# Altium schematic symbol library lamp_controller.SchLib: 88 symbols (part 3 of 3)
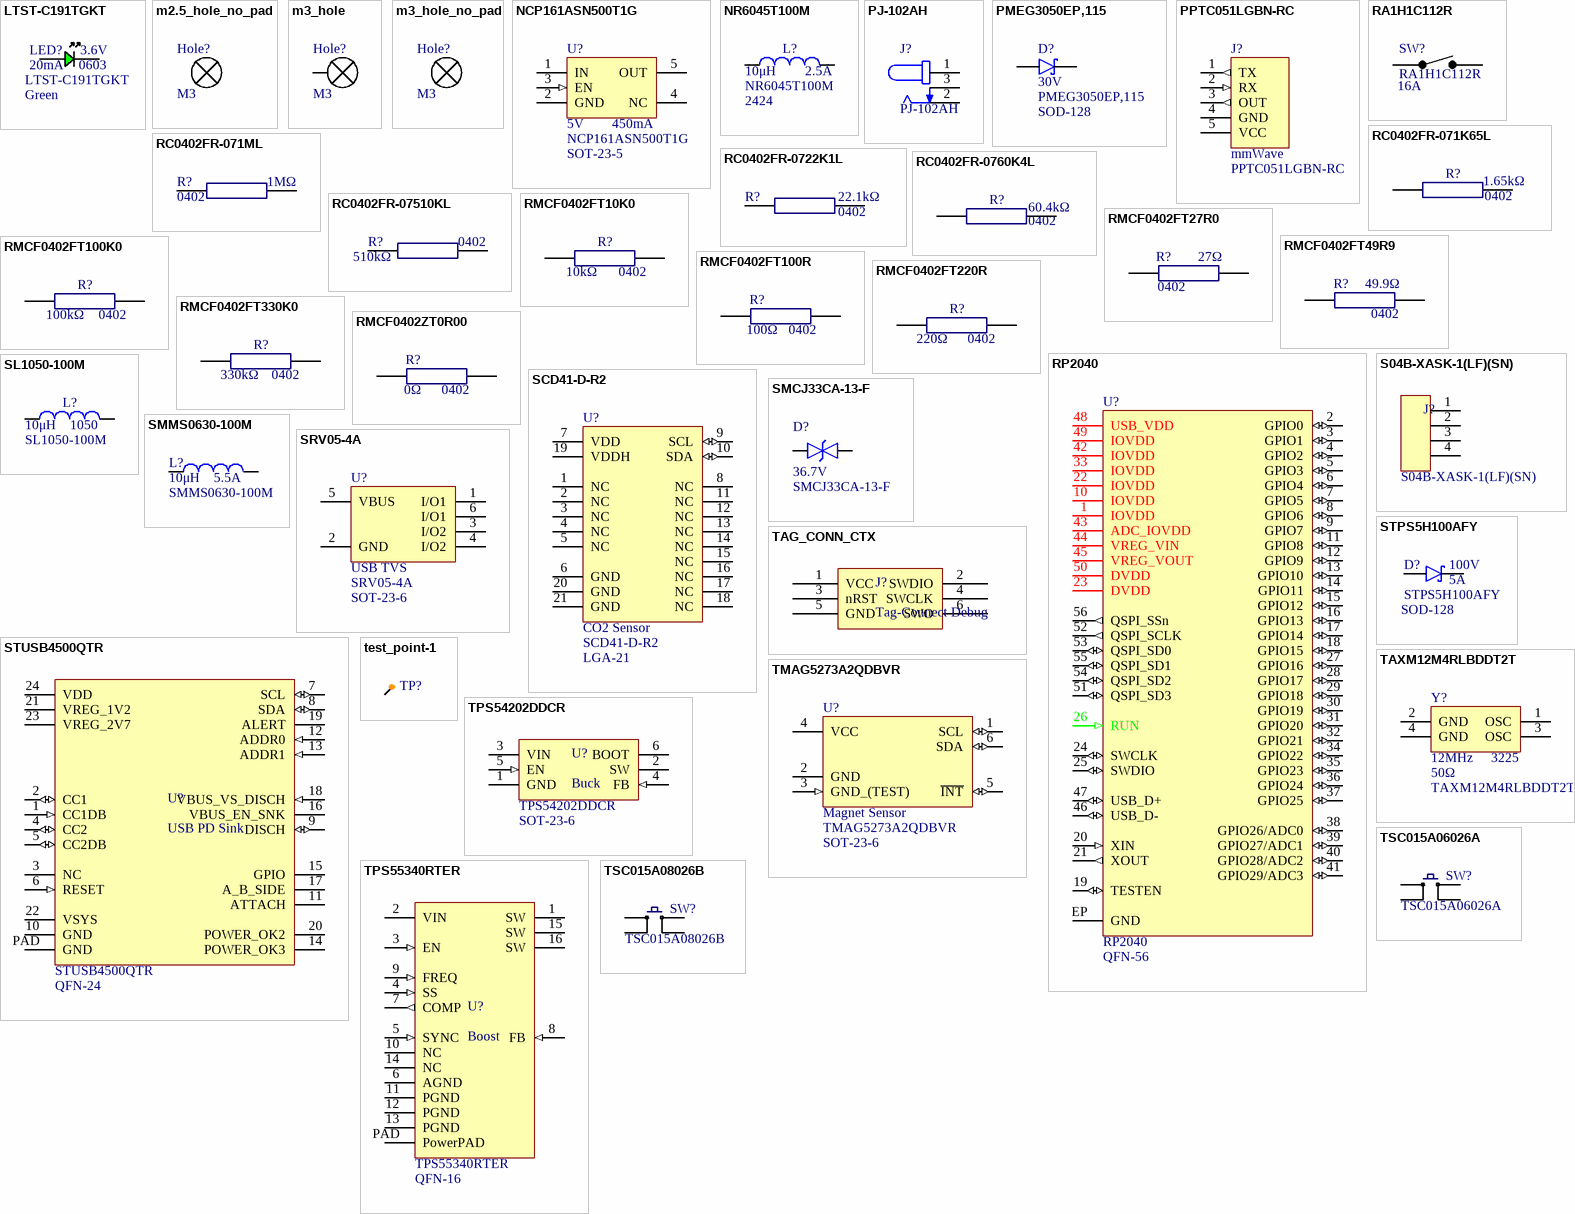
[diagram p4: symbols LTST-C191TGKT to TSC015A08026B]

## RMCF0402FT100K0
designator R?  Case Code (Imperial): 0402  Resistance: 100kΩ  (hidden comment: RMCF0402FT100K0)
100 kΩ, 0402 Chip resistor; Manufacturer: Stackpole Electronics; Manufacturer Part Number: RMCF0402FT10K0; house_part_number: R-100k-0402-1%-001; Tolerance: 1%; Power Rating: 62.5mW; Temperature Coefficient: 100ppm/°C; Max Power Dissipation: 63mW; Supplier 1: Digi-Key; RoHS: Yes; Category: Chip SMD Resistors; Stock 1: 7219214; Pricing 1: 1=0.10000, 10=0.01300, 100=0.00530, 1000=0.00239, 2500=0.00207, 5000=0.00171 (USD); Mount: Surface Mount; Case/Package: 0402; Case Code (Metric): 1005; Contact Plating: Tin,Matte; Size Code: 0402; Min Operating Temperature: -55°C; Max Operating Temperature: 155°C; Packaging: Tape and Reel; Resistor Type: Thick Film; Number of Terminations: 2; Features: Automotive AEC-Q200; Series: RMCF; Construction: Rectangular; Length: 1mm; Width: 0.02inch; Height: 0.016inch; Depth: 0.5mm; Radiation Hardening: No; Military Standard: Not; Lead Free: Lead Free; RoHS Compliant: Yes; ComponentLink1URL: https://datasheet.ciiva.com/24341/sei-rmcp-24341800.pdf?src-supplier=Onlinecomponents.com; ComponentLink1Description: https://datasheet.ciiva.com/24341/sei-rmcp-24341800.pdf?src-supplier=Onlinecomponents.com; Supplier Part Number 1: RMCF0402FT10K0CT-ND
footprint 0402_resistor (0402 chip resistor)
pins: 1, 2

## RMCF0402FT100R
designator R?  Case Code (Imperial): 0402  Resistance: 100Ω  (hidden comment: RMCF0402FT100R)
100 Ω, 0402 Chip resistor; Manufacturer: Stackpole Electronics; house_part_number: R-100-0402-1%-001; Power Rating: 62.5mW; Tolerance: 1%; Max Power Dissipation: 63mW; Temperature Coefficient: 100ppm/°C; Supplier 1: Digi-Key; Supplier Part Number 1: RMCF0402FT100RCT-ND; RoHS: Yes; Category: Chip SMD Resistors; Stock 1: 188482; Pricing 1: 1=0.10000, 10=0.01300, 100=0.00530, 1000=0.00238, 2500=0.00207, 5000=0.00171 (USD); Mount: Surface Mount; Case/Package: 0402; Case Code (Metric): 1005; Contact Plating: Tin,Matte; Min Operating Temperature: -55°C; Max Operating Temperature: 155°C; Packaging: Tape and Reel; Resistor Type: Thick Film; Number of Terminations: 2; Features: Automotive AEC-Q200; Series: RMCF; Construction: Rectangular; Length: 1mm; Width: 0.02inch; Height: 0.016inch; Depth: 0.5mm; Military Standard: Not; Lead Free: Lead Free; RoHS Compliant: Yes; ComponentLink1URL: http://components.arrow.com/part/dataview/50497758S7215546N1174?src-supplier=Arrow+Electronics; ComponentLink1Description: http://components.arrow.com/part/dataview/50497758S7215546N1174?src-supplier=Arrow+Electronics; ComponentLink2URL: https://www.seielect.com/catalog/sei-rmcf_rmcp.pdf?src-supplier=Digi-Key; ComponentLink2Description: https://www.seielect.com/catalog/sei-rmcf_rmcp.pdf?src-supplier=Digi-Key; ComponentLink3URL: https://www.seielect.com/Catalog/SEI-RMCF_RMCP.pdf?src-supplier=Avnet; ComponentLink3Description: https://www.seielect.com/Catalog/SEI-RMCF_RMCP.pdf?src-supplier=Avnet; ComponentLink4URL: https://www.verical.com/server-webapp/html/getDatasheet?partID=368652&src-supplier=Verical; ComponentLink4Description: https://www.verical.com/server-webapp/html/getDatasheet?partID=368652&src-supplier=Verical; ComponentLink5URL: https://www.seielect.com/Catalog/SEI-RMCF_RMCP.pdf?src-supplier=Avnet+Asia; ComponentLink5Description: https://www.seielect.com/Catalog/SEI-RMCF_RMCP.pdf?src-supplier=Avnet+Asia; Manufacturer Part Number: RMCF0402FT100R
footprint 0402_resistor (0402 chip resistor)
pins: 1, 2

## RMCF0402FT220R
designator R?  Resistance: 220Ω  Case Code (Imperial): 0402  (hidden comment: RMCF0402FT220R)
220Ω, 0402 Chip resistor; Manufacturer: Stackpole Electronics; Manufacturer Part Number: RMCF0402FT390R; house_part_number: R-220-0402-1%-001; Tolerance: 1%; Max Power Dissipation: 63mW; Temperature Coefficient: 100ppm/°C; Supplier 1: Digi-Key; RoHS: Yes; Category: Chip SMD Resistors; Stock 1: 15771; Pricing 1: 1=0.10000, 10=0.01300, 100=0.00530, 1000=0.00239, 2500=0.00207, 5000=0.00171 (USD); Mount: Surface Mount; Case/Package: 0402; Case Code (Metric): 1005; Contact Plating: Tin,Matte; Min Operating Temperature: -55°C; Max Operating Temperature: 155°C; Packaging: Tape and Reel; Resistor Type: Thick Film; Number of Terminations: 2; Features: Automotive AEC-Q200; Series: RMCF; Length: 0.039inch; Width: 0.02inch; Height: 0.016inch; Radiation Hardening: No; Lead Free: Lead Free; RoHS Compliant: Yes; ComponentLink1URL: https://www.seielect.com/catalog/SEI-Packaging.pdf?src-supplier=Digi-Key; ComponentLink1Description: https://www.seielect.com/catalog/SEI-Packaging.pdf?src-supplier=Digi-Key; ComponentLink2URL: https://www.seielect.com/Catalog/SEI-RMCF_RMCP.pdf?src-supplier=Digi-Key; ComponentLink2Description: https://www.seielect.com/Catalog/SEI-RMCF_RMCP.pdf?src-supplier=Digi-Key; ComponentLink3URL: https://www.seielect.com/catalog/SEI-RMCF_RMCP.pdf?src-supplier=Avnet; ComponentLink3Description: https://www.seielect.com/catalog/SEI-RMCF_RMCP.pdf?src-supplier=Avnet; Supplier Part Number 1: RMCF0402FT390RCT-ND
footprint 0402_resistor (Chip Resistor, 2-Leads, Body 1.00x0.50mm, IPC Medium Density)
pins: 1, 2

## RMCF0402FT330K0
designator R?  Resistance: 330kΩ  Case Code (Imperial): 0402  (hidden comment: RMCF0402FT330K0)
330 kΩ, 0402 Chip resistor; Manufacturer: Stackpole Electronics; Manufacturer Part Number: RMCF0402FT390R; house_part_number: R-330k-0402-1%-001; Tolerance: 1%; Max Power Dissipation: 63mW; Temperature Coefficient: 100ppm/°C; Supplier 1: Digi-Key; RoHS: Yes; Category: Chip SMD Resistors; Stock 1: 15771; Pricing 1: 1=0.10000, 10=0.01300, 100=0.00530, 1000=0.00239, 2500=0.00207, 5000=0.00171 (USD); Mount: Surface Mount; Case/Package: 0402; Case Code (Metric): 1005; Contact Plating: Tin,Matte; Min Operating Temperature: -55°C; Max Operating Temperature: 155°C; Packaging: Tape and Reel; Resistor Type: Thick Film; Number of Terminations: 2; Features: Automotive AEC-Q200; Series: RMCF; Length: 0.039inch; Width: 0.02inch; Height: 0.016inch; Radiation Hardening: No; Lead Free: Lead Free; RoHS Compliant: Yes; ComponentLink1URL: https://www.seielect.com/catalog/SEI-Packaging.pdf?src-supplier=Digi-Key; ComponentLink1Description: https://www.seielect.com/catalog/SEI-Packaging.pdf?src-supplier=Digi-Key; ComponentLink2URL: https://www.seielect.com/Catalog/SEI-RMCF_RMCP.pdf?src-supplier=Digi-Key; ComponentLink2Description: https://www.seielect.com/Catalog/SEI-RMCF_RMCP.pdf?src-supplier=Digi-Key; ComponentLink3URL: https://www.seielect.com/catalog/SEI-RMCF_RMCP.pdf?src-supplier=Avnet; ComponentLink3Description: https://www.seielect.com/catalog/SEI-RMCF_RMCP.pdf?src-supplier=Avnet; Supplier Part Number 1: RMCF0402FT390RCT-ND
footprint 0402_resistor (0402 chip resistor)
pins: 1, 1, 2, 2

## RMCF0402ZT0R00
designator R?  Resistance: 0Ω  Case/Package: 0402  (hidden comment: RMCF0402ZT0R00)
0 Ω, 0402 Jumper; Manufacturer: Stackpole Electronics; house_part_number: JP-0402-001; Power Rating: 63mW; Current Rating: 1A; Working Voltage: 50V; Supplier 1: Digi-Key; Supplier Part Number 1: RMCF0402ZT0R00CT-ND; RoHS: Yes; Category: Chip SMD Resistors; Stock 1: 6500003; Pricing 1: 1=0.10000, 10=0.01000, 25=0.00720, 50=0.00560, 100=0.00410, 250=0.00316, 500=0.00252, 1000=0.00186, 5000=0.00133 (USD); Mount: Surface Mount; Case Code (Metric): 1005; Case Code (Imperial): 0402; Contact Plating: Tin,Matte; Min Operating Temperature: -55°C; Max Operating Temperature: 155°C; Packaging: Tape and Reel; Resistor Type: Thick Film; Number of Terminations: 2; Max Power Dissipation: 63mW; Features: Automotive AEC-Q200; Series: RMCF; Technology: THICK FILM; Construction: Rectangular; Length: 0.039inch; Width: 0.02inch; Height: 0.016inch; Depth: 0.5mm; Radiation Hardening: No; Military Standard: Not; Lead Free: Lead Free; RoHS Compliant: Yes; ComponentLink1URL: https://datasheet.ciiva.com/26835/getdatasheetpartid-409751-26835612.pdf?src-supplier=Verical; ComponentLink1Description: https://datasheet.ciiva.com/26835/getdatasheetpartid-409751-26835612.pdf?src-supplier=Verical; Manufacturer Part Number: RMCF0402ZT0R00
footprint 0402_resistor (0402 chip resistor)
pins: 1, 2

## RP2040
designator U?  Manufacturer Part Number: RP2040  Package: QFN-56
Raspberry Pi microcontroller, QFN-56; Manufacturer: Raspberry Pi; Supplier: Newark; Supplier Part Number: 49AJ8739; RoHS: No; Category: Uncategorized; Stock: 720; Pricing: 1=1 (USD)
footprint QFN-56
pins: 1 IOVDD (power), 2 GPIO0 (io), 3 GPIO1 (io), 4 GPIO2 (io), 5 GPIO3 (io), 6 GPIO4 (io), 7 GPIO5 (io), 8 GPIO6 (io), 9 GPIO7 (io), 10 IOVDD (power), 11 GPIO8 (io), 12 GPIO9 (io), 13 GPIO10 (io), 14 GPIO11 (io), 15 GPIO12 (io), 16 GPIO13 (io), 17 GPIO14 (io), 18 GPIO15 (io), 19 TESTEN (io), 20 XIN (in), 21 XOUT (out), 22 IOVDD (power), 23 DVDD (power), 24 SWCLK (io), 25 SWDIO (io), 26 RUN (in), 27 GPIO16 (io), 28 GPIO17 (io), 29 GPIO18 (io), 30 GPIO19 (io), 31 GPIO20 (io), 32 GPIO21 (io), 33 IOVDD (power), 34 GPIO22 (io), 35 GPIO23 (io), 36 GPIO24 (io), 37 GPIO25 (io), 38 GPIO26/ADC0 (io), 39 GPIO27/ADC1 (io), 40 GPIO28/ADC2 (io), 41 GPIO29/ADC3 (io), 42 IOVDD (power), 43 ADC_IOVDD (power), 44 VREG_VIN (power), 45 VREG_VOUT (power), 46 USB_D- (io), 47 USB_D+ (io), 48 USB_VDD (power), 49 IOVDD (power), 50 DVDD (power), 51 QSPI_SD3 (io), 52 QSPI_SCLK (out), 53 QSPI_SD0 (io), 54 QSPI_SD2 (io), 55 QSPI_SD1 (io), 56 QSPI_SSn (out), EP GND (power)

## S04B-XASK-1(LF)(SN)
designator J?  Manufacturer Part Number: S04B-XASK-1(LF)(SN)  (hidden comment: *)
XA Series 4 Position 2.5 mm Side Entry Through-Hole Shrouded Header; Manufacturer: JST; Number of Poles: 4; Current Rating: 3A; Contact Resistance: 10mR; Voltage Rating (AC): 250V; Insulation Resistance: 1GR; Gender: Male; Pitch: 2.5mm; Wire/Cable Gauge: 20AWG; Lead Length: 3.4mm; Supplier: Arrow Electronics; Supplier Part Number: S04B-XASK-1(LF)(SN); RoHS: Yes; Category: Headers and Wire Housings; Stock: 13562; Pricing: 1=0.5096, 10=0.4564, 25=0.4517, 50=0.4469, 100=0.364, 500=0.2293 (USD); Mounting Technology: Through Hole,PCB; Pins: 4; Contact Plating: Tin; Contact Material: Copper Alloy,Tin,Bronze,Copper; Color: Beige; Material: Nylon; Contact Shape: Circular; Contact Finish - Mating: TIN; Insulation Material: Nylon; Insulation Color: Natural; Min Operating Temperature: -25°C; Max Operating Temperature: 85°C; Number of Rows: 1; Voltage Rating (DC): 250V; Voltage Rating: 250V; Termination: Solder; Number of Contacts: 4; Number of Positions: 4; Orientation: Right Angle; Series: XA; Connector Type: Header; Fastening Type: Ramp; Packaging: Bulk; Contact Type: Male Pin; Length: 12.5mm; Width: 12.6mm; Height: 7.6mm; Lead Free: Lead Free; Reach SVHC Compliant: No; Flammability Rating: UL94 V-0; ComponentLink1URL: https://datasheet.ciiva.com/29316/741407-da-01-en-stiftleiste-abgew-4-pol-rm-2-5mm-29316948.pdf?src-supplier=Conrad; ComponentLink1Description: https://datasheet.ciiva.com/29316/741407-da-01-en-stiftleiste-abgew-4-pol-rm-2-5mm-29316948.pdf?src-supplier=Conrad; ComponentLink2URL: https://datasheet.ciiva.com/8052/80585-8052159.pdf?src-supplier=Element14; ComponentLink2Description: https://datasheet.ciiva.com/8052/80585-8052159.pdf?src-supplier=Element14; ComponentLink3URL: https://datasheet.ciiva.com/16364/exa1-16364429.pdf?src-supplier=Future+Electronics; ComponentLink3Description: https://datasheet.ciiva.com/16364/exa1-16364429.pdf?src-supplier=Future+Electronics
footprint S04B-XASK-1 (JST XA 2.5mm header, right angle)
pins: 1, 2, 3, 4

## SCD41-D-R2
designator U?, comment CO2 Sensor  Package: LGA-21  Manufacturer Part Number: SCD41-D-R2
400 - 5000 ppm CO2 sensor, LGA-21; Manufacturer: Sensirion; Supplier 1: Digikey; RoHS: No; Stock 1: 1686; Pricing 1: 600=25.70007 (USD); Reach SVHC Compliant: Yes; ComponentLink1URL: https://datasheet.octopart.com/SCD41-D-R2-Sensirion-datasheet-166236393.pdf?src-supplier=Future+Electronics; ComponentLink1Description: https://datasheet.octopart.com/SCD41-D-R2-Sensirion-datasheet-166236393.pdf?src-supplier=Future+Electronics; Supplier Part Number 1: 1649-SCD41-D-R2TR-ND
footprint scd41
pins: 1 NC "Do not connect, pads must be soldered to a floating pad on the customer PCB", 2 NC "Do not connect, pads must be soldered to a floating pad on the customer PCB", 3 NC "Do not connect, pads must be soldered to a floating pad on the customer PCB", 4 NC "Do not connect, pads must be soldered to a floating pad on the customer PCB", 5 NC "Do not connect, pads must be soldered to a floating pad on the customer PCB", 6 GND (power) "Ground", 7 VDD (power) "Supply voltage", 8 NC "Do not connect, pads must be soldered to a floating pad on the customer PCB", 9 SCL (io) "I2C Serial clock", 10 SDA (io) "I2C Serial data, bidirectional", 11 NC "Do not connect, pads must be soldered to a floating pad on the customer PCB", 12 NC "Do not connect, pads must be soldered to a floating pad on the customer PCB", 13 NC "Do not connect, pads must be soldered to a floating pad on the customer PCB", 14 NC "Do not connect, pads must be soldered to a floating pad on the customer PCB", 15 NC "Do not connect, pads must be soldered to a floating pad on the customer PCB", 16 NC "Do not connect, pads must be soldered to a floating pad on the customer PCB", 17 NC "Do not connect, pads must be soldered to a floating pad on the customer PCB", 18 NC "Do not connect, pads must be soldered to a floating pad on the customer PCB", 19 VDDH (power) "Supply voltage IR source, must be connected to VDD on customer PCB", 20 GND (power) "Ground", 21 GND (power) "Ground"

## SL1050-100M
designator L?  Inductance: 10μH  Package: 1050  Manufacturer Part Number: SL1050-100M  (hidden comment: *)
10 μH, 8A, 1050 Inductor; Manufacturer: TECHFUSE; RoHS: Yes; Current: 8A
footprint 1050_inductor (Precision Wire Wound Inductor, 2-Leads, Body 11.00x10.50mm, IPC Medium Density)
pins: 1, 2

## SMCJ33CA-13-F
designator D?  Manufacturer Part Number: SMCJ33CA-13-F  Min Breakdown Voltage: 36.7V  (hidden comment: *)
TVS diode, Trans Voltage Suppressor Diode, 1500W, 33V V(RWM), Bidirectional, 1 Element, Silicon; Manufacturer: Diodes; Package Body Material: Plastic; Additional Feature: EXCELLENT CLAMPING CAPABILITY; Max Breakdown Voltage: 40.6V; Breakdown Voltage-Nom: 38.7V; Clamping Voltage-Max: 53.3V; Non-rep Peak Rev Power Dis-Max: 1.5kW; Number of Elements: 1; Max Power Dissipation: 5W; Time @ Peak Reflow Temperature-Max (s): 40s; Qualification Status: Not Qualified; Supplier 1: LCSC; RoHS: Yes; Category: TVS Diodes; Stock 1: 2995; Pricing 1: 5=0.2921, 50=0.2375, 150=0.2141, 500=0.185, 3000=0.172, 6000=0.1642 (USD); Pins: 2; Diode Element Material: SILICON; Package Shape: Rectangular; Terminal Finish: Tin; Min Operating Temperature: -55°C; Max Operating Temperature: 150°C; JESD-609 Code: e3; Polarity: Bidirectional; Diode Type: TRANS VOLTAGE SUPPRESSOR; JESD-30 Code: R-PDSO-C2; Moisture Sensitivity Level: 1; Package Style: SMALL OUTLINEMeter; Peak Reflow Temperature (Cel): 260°C; Rep Pk Reverse Voltage-Max: 33V; Surface Mount: Yes; Technology: AVALANCHE; Terminal Form: C BEND; Terminal Position: DUAL; RoHS Compliant: Yes; Reach SVHC Compliant: No; ComponentLink1URL: https://datasheet.ciiva.com:443/pdfs/VipMasterIC/IC/DIOD/DIOD-S-A0000285740/DIOD-S-A0000285740-1.pdf?src-supplier=IHS+Markit; ComponentLink1Description: https://datasheet.ciiva.com:443/pdfs/VipMasterIC/IC/DIOD/DIOD-S-A0000285740/DIOD-S-A0000285740-1.pdf?src-supplier=IHS+Markit; ComponentLink2URL: http://www.mouser.com/ds/2/115/ds19003-73575.pdf?src-supplier=Mouser; ComponentLink2Description: http://www.mouser.com/ds/2/115/ds19003-73575.pdf?src-supplier=Mouser; ComponentLink3URL: http://components.arrow.com/part/dataview/41510117S9851208N2867?src-supplier=Arrow+Electronics; ComponentLink3Description: http://components.arrow.com/part/dataview/41510117S9851208N2867?src-supplier=Arrow+Electronics; ComponentLink4URL: https://datasheet.octopart.com/SMCJ33CA-13-F-Diodes-Inc.-datasheet-6912.pdf?src-supplier=Digikey; ComponentLink4Description: https://datasheet.octopart.com/SMCJ33CA-13-F-Diodes-Inc.-datasheet-6912.pdf?src-supplier=Digikey; ComponentLink5URL: http://www.diodes.com//datasheets/ds19003.pdf?src-supplier=Avnet; ComponentLink5Description: http://www.diodes.com//datasheets/ds19003.pdf?src-supplier=Avnet; ComponentLink6URL: http://www.diodes.com///datasheets/ds19003.pdf?src-supplier=Avnet; ComponentLink6Description: http://www.diodes.com///datasheets/ds19003.pdf?src-supplier=Avnet; ComponentLink7URL: http://www.diodes.com/_files/datasheets/ds19003.pdf?src-supplier=Future+Electronics; ComponentLink7Description: http://www.diodes.com/_files/datasheets/ds19003.pdf?src-supplier=Future+Electronics; ComponentLink8URL: https://datasheet.octopart.com/SMCJ33CA-13-F-Diodes-Inc.-datasheet-130126529.pdf?src-supplier=TME; ComponentLink8Description: https://datasheet.octopart.com/SMCJ33CA-13-F-Diodes-Inc.-datasheet-130126529.pdf?src-supplier=TME; Supplier Part Number 1: C135163; Package: SMC
footprint SMCJ33CA-13-F
pins: 1, 2

## SMMS0630-100M
designator L?  Saturation Current: 5.5A  Inductance: 10μH  Manufacturer Part Number: SMMS0630-100M  (hidden comment: *)
10 μH, 5.5 A, 6.6mm x 7.3mm inductor; Manufacturer: SXN; Supplier 1: LCSC; RoHS: No; Stock 1: 72935; Pricing 1: 5=0.0834, 50=0.0677, 150=0.0596, 1000=0.0466, 2000=0.0442, 5000=0.0427 (USD); Supplier Part Number 1: C128692
footprint SMMS0630 (Precision Wire Wound Inductor, 2-Leads, Body 7.10x6.60mm, IPC Medium Density)
pins: 1, 2

## SRV05-4A
designator U?, comment USB TVS  Case/Package: SOT-23-6  Manufacturer Part Number: SRV05-4A
TVS DIODE ARRAY SOT23-6; Manufacturer: SMC Diodes; Direction: Unidirectional,Bidirectional; Capacitance: 3.5pF; Operating Supply Voltage: 1.1V; Number of Channels: 2; Breakdown Voltage: 6V; Clamping Voltage: 17V; Reverse Standoff Voltage: 5.25V; Power Line Protection: Yes; Test Current: 1mA; Max Reverse Leakage Current: 150nA; Peak Pulse Current: 5A; Element Configuration: Dual; Data Rate: 480Mbps; Number of Elements: 1; Working Voltage: 5V; RoHS: Yes; Category: TVS Diodes; Stock: 12000; Pricing: 3000=0,05640 (USD); Mount: Surface Mount; Number of Pins: 6; Contact Plating: Tin,Matte; Min Operating Temperature: -40°C; Max Operating Temperature: 125°C; Packaging: Tape and Reel; Package Quantity: 3000; Termination: SMD/SMT; Number of Bidirectional Channels: 2; Min Breakdown Voltage: 6V; ESD Protection: Yes; Leakage Current: 150nA; Series: USB; Reverse Breakdown Voltage: 6V; Polarity: Unidirectional,Bidirectional; Max Breakdown Voltage: 6V; Clamping Voltage-Max: 17V; Length: 3.05mm; Width: 1.75mm; Height: 1.3mm; Depth: 1.75mm; Radiation Hardening: No; REACH SVHC: No SVHC; Lead Free: Lead Free; RoHS Compliant: Yes; ComponentLink1URL: https://datasheet.ciiva.com/1268/1690354-1268384.pdf?src-supplier=Element14; ComponentLink1Description: https://datasheet.ciiva.com/1268/1690354-1268384.pdf?src-supplier=Element14; ComponentLink2URL: https://datasheet.ciiva.com/4508/cd00050750-113117-4508433.pdf?src-supplier=Mouser; ComponentLink2Description: https://datasheet.ciiva.com/4508/cd00050750-113117-4508433.pdf?src-supplier=Mouser; ComponentLink3URL: https://datasheet.ciiva.com/15143/getdatasheetpartid-148465-15143789.pdf?src-supplier=Verical; ComponentLink3Description: https://datasheet.ciiva.com/15143/getdatasheetpartid-148465-15143789.pdf?src-supplier=Verical; ComponentLink4URL: https://datasheet.ciiva.com/16200/cd00050750-16200026.pdf?src-supplier=Future+Electronics; ComponentLink4Description: https://datasheet.ciiva.com/16200/cd00050750-16200026.pdf?src-supplier=Future+Electronics; ComponentLink5URL: https://datasheet.ciiva.com/41444/001184109-da-01-en-ic-esd-protecti-usblc6-2sc6-sot-23-6-stm-41444156.pdf?src-supplier=Conrad; ComponentLink5Description: https://datasheet.ciiva.com/41444/001184109-da-01-en-ic-esd-protecti-usblc6-2sc6-sot-23-6-stm-41444156.pdf?src-supplier=Conrad; Supplier 1: LCSC; Supplier Part Number 1: C260410; house_part_number: SRV05-4A
footprint SOT95P280X110-6N (SOT23, 6-Leads, Body 2,90x2,80mm, Pitch 0,95mm, IPC Medium Density)
pins: 1 I/O1, 2 GND, 3 I/O2, 4 I/O2, 5 VBUS, 6 I/O1

## STPS5H100AFY
designator D?  Package: SOD-128  Current: 5A  Rep Pk Reverse Voltage-Max: 100V  Manufacturer Part Number: STPS5H100AFY  (hidden comment: *)
Schottky diode, 100V, 5A, SOD-128; Manufacturer: STMicroelectronics; Diode Element Material: SILICON; Package Body Material: Plastic; Application(s): HIGH VOLTAGE POWER; Diode Type: RECTIFIER; Forward Voltage: 760mV; Non-rep Pk Forward Current-Max: 130A; Number of Elements: 1; Max Reverse Current: 3.5uA; Reference Standard: AEC-Q101; Supplier 1: Digikey; RoHS: Yes; Category: Rectifier Diodes; Stock 1: 55724; Pricing 1: 1=0.78, 10=0.526, 100=0.4102, 500=0.31624, 1000=0.28596 (USD); Pins: 2; Package Shape: Rectangular; Min Operating Temperature: -40°C; Max Operating Temperature: 175°C; JESD-30 Code: R-PDSO-F2; Number of Phases: 1; Package Style: SMALL OUTLINEMeter; Surface Mount: Yes; Technology: SCHOTTKY; Terminal Form: Flat; Terminal Position: DUAL; RoHS Compliant: Yes; Reach SVHC Compliant: No; ComponentLink1URL: https://datasheet.ciiva.com:443/pdfs/VipMasterIC/IC/SGST/SGST-S-A0002952656/SGST-S-A0002952656-1.pdf?src-supplier=IHS+Markit; ComponentLink1Description: https://datasheet.ciiva.com:443/pdfs/VipMasterIC/IC/SGST/SGST-S-A0002952656/SGST-S-A0002952656-1.pdf?src-supplier=IHS+Markit; ComponentLink2URL: http://www.farnell.com/datasheets/2816111.pdf?src-supplier=Farnell; ComponentLink2Description: http://www.farnell.com/datasheets/2816111.pdf?src-supplier=Farnell; ComponentLink3URL: http://www.st.com/content/ccc/resource/technical/document/datasheet/group3/a7/aa/f5/d0/a8/25/41/d5/DM00303942/files/DM00303942.pdf/jcr:content/translations/en.DM00303942.pdf?src-supplier=Digikey; ComponentLink3Description: http://www.st.com/content/ccc/resource/technical/document/datasheet/group3/a7/aa/f5/d0/a8/25/41/d5/DM00303942/files/DM00303942.pdf/jcr:content/translations/en.DM00303942.pdf?src-supplier=Digikey; ComponentLink4URL: http://www.farnell.com/datasheets/2816111.pdf?src-supplier=Newark; ComponentLink4Description: http://www.farnell.com/datasheets/2816111.pdf?src-supplier=Newark; ComponentLink5URL: https://datasheet.octopart.com/STPS5H100AFY-STMicroelectronics-datasheet-97040641.pdf?src-supplier=Future+Electronics; ComponentLink5Description: https://datasheet.octopart.com/STPS5H100AFY-STMicroelectronics-datasheet-97040641.pdf?src-supplier=Future+Electronics; Supplier Part Number 1: 497-17312-1-ND
footprint SOD128
pins: 1, 2

## STUSB4500QTR
designator U?, comment USB PD Sink  Package: QFN-24  Manufacturer Part Number: STUSB4500QTR
Manufacturer: STMicroelectronics; Consumer IC Type: CONSUMER CIRCUIT; Supplier 1: LCSC; RoHS: Yes; Category: USB Interface ICs; Stock 1: 9434; Pricing 1: 1=1.8642, 10=1.5172, 30=1.3685, 100=1.183, 1000=1.0509, 2000=1.0343 (USD); Reach SVHC Compliant: Yes; RoHS Compliant: Yes; ComponentLink1URL: https://datasheet.ciiva.com:443/pdfs/VipMasterIC/IC/SGST/SGST-S-A0009451278/SGST-S-A0009451278-1.pdf?src-supplier=IHS+Markit; ComponentLink1Description: https://datasheet.ciiva.com:443/pdfs/VipMasterIC/IC/SGST/SGST-S-A0009451278/SGST-S-A0009451278-1.pdf?src-supplier=IHS+Markit; ComponentLink2URL: http://www.farnell.com/datasheets/2710898.pdf?src-supplier=Farnell; ComponentLink2Description: http://www.farnell.com/datasheets/2710898.pdf?src-supplier=Farnell; ComponentLink3URL: http://www.farnell.com/datasheets/2710898.pdf?src-supplier=Element14; ComponentLink3Description: http://www.farnell.com/datasheets/2710898.pdf?src-supplier=Element14; ComponentLink4URL: http://www.farnell.com/datasheets/2710898.pdf?src-supplier=Newark; ComponentLink4Description: http://www.farnell.com/datasheets/2710898.pdf?src-supplier=Newark; ComponentLink5URL: http://www.st.com/content/ccc/resource/technical/document/datasheet/group3/1c/4a/55/d7/17/01/44/86/DM00489312/files/DM00489312.pdf/jcr:content/translations/en.DM00489312.pdf?src-supplier=Digikey; ComponentLink5Description: http://www.st.com/content/ccc/resource/technical/document/datasheet/group3/1c/4a/55/d7/17/01/44/86/DM00489312/files/DM00489312.pdf/jcr:content/translations/en.DM00489312.pdf?src-supplier=Digikey; Supplier Part Number 1: C2678061
footprint QFN-24 (QFN, 24-Leads, Body 4.00x4.00mm, Pitch 0.50mm, Thermal Pad 2.70x2.70mm, IPC Low Density)
pins: 1 CC1DB (in) "Dead battery enable on CC1 pin", 2 CC1 (io) "Type-C configuration channel 1", 3 NC "Not Connected", 4 CC2 (io) "Type-C configuration channel 2", 5 CC2DB (io) "Dead battery enable on CC2 pin", 6 RESET (in) "Reset input, active high", 7 SCL (io) "I2C clock input", 8 SDA (io) "I2C data input/output, active low open drain", 9 DISCH (io) "Internal discharge path or external discharge path enable, active low open drain", 10 GND (power) "Ground", 11 ATTACH (oc) "Attachment detection, active low open drain", 12 ADDR0 (in) "I²C device address setting", 13 ADDR1 (in) "I²C device address setting", 14 POWER_OK3 (oc) "Power contract flag, active low open drain", 15 GPIO (oc) "General purpose output, active low open drain", 16 VBUS_EN_SNK (oc) "VBUS sink power path enable, active low open drain", 17 A_B_SIDE (oc) "Cable orientation, active low open drain", 18 VBUS_VS_DISCH (in) "VBUS voltage monitoring and discharge path", 19 ALERT (oc) "I2C interrupt, active low open drain", 20 POWER_OK2 (oc) "Power contract flag, active low open drain", 21 VREG_1V2 (power) "1.2 V internal regulator output", 22 VSYS (power) "Power supply from system", 23 VREG_2V7 (power) "2.7 V internal regulator output", 24 VDD (power) "Power supply from USB power line", PAD GND (power) "Exposed pad is connected to ground"

## TAG_CONN_CTX
designator J?, comment Tag-Connect Debug
Mates with TC-2030-CTX; house_part_number: type-value-case-grade
footprint TAG-Connect (Debug header)
pins: 1 VCC, 2 SWDIO, 3 nRST, 4 SWCLK, 5 GND, 6 SWO

## TAXM12M4RLBDDT2T
designator Y?  value 12MHz  ESR: 50Ω  Case/Package: 3225  (hidden comment: TAXM12M4RLBDDT2T)
12 MHz, 10 ppm, 20 pF, 3225 Crystal; Supplier 1: LCSC; Supplier Part Number 1: C133334; house_part_number: TAXM12M4RLBDDT2T; Manufacturer Part Number: TAXM12M4RLBDDT2T
footprint 3225_crystal
pins: 1 OSC, 2 GND (power), 3 OSC, 4 GND (power)

## test_point-1
designator TP?  (value not drawn)  (no BOM)
Test point; pickable: no
footprint test_point-1 (Test point)
pins: 1

## TMAG5273A2QDBVR
designator U?, comment Magnet Sensor  Package: SOT-23-6  Manufacturer Part Number: TMAG5273A2QDBVR
3-Axis Hall sensor, I2C, SOT-23-6; Manufacturer: Texas Instruments; Supplier 1: LCSC; RoHS: No; Category: Integrated Circuits (ICs); Stock 1: 2055; Pricing 1: 1=0.7697, 10=0.6247, 30=0.5507, 100=0.4782, 500=0.4242, 1000=0.4011 (USD); Supplier Part Number 1: C3715882
footprint SOT-23-6
pins: 1 SCL (io) "Serial clock.", 2 GND (power) "Ground", 3 GND_(TEST) (in) "TI Test Pin. Connect to ground in application.", 4 VCC (power) "Power supply (1.7V - 3.6V)", 5 ~{INT} (io) "Interrupt input/ output. If not used and connected to ground, set MASK_INTB = 1b.", 6 SDA (io) "Serial data."

## TPS54202DDCR
designator U?, comment Buck  Case/Package: SOT-23-6  Manufacturer Part Number: TPS54202DDCR
Switching Regulator, Current-mode, 2A, 500kHz Switching Freq-Max, PDSO6; Manufacturer: Texas Instruments; Package Body Material: Plastic; Control Technique: PULSE WIDTH MODULATION; Max Supply Voltage: 28V; Min Input Voltage: 4.5V; Nominal Supply Voltage: 12V; Channels: 1; Max Output current: 3.9A; Frequency: 590kHz; Supplier 1: Digi-Key; RoHS: Yes; Category: Voltage Regulators - Switching; Stock 1: 4766; Pricing 1: 1=1.29, 10=1.154, 25=1.0956, 100=0.9001, 250=0.8414, 500=0.74356, 1000=0.58702 (USD); Pins: 6; Package Shape: Rectangular; Terminal Finish: Tin; Min Operating Temperature: -40°C; Max Operating Temperature: 125°C; JESD-609 Code: e3; Throw Configuration: SWITCHING REGULATOR; Control Mode: CURRENT-MODE; JESD-30 Code: R-PDSO-G6; Moisture Sensitivity Level: 1; Package Style: SMALL OUTLINE, THIN PROFILE, SHRINK PITCHMeter; Surface Mount: Yes; Switcher Configuration: BUCK; Terminal Form: Gull Wing; Terminal Position: DUAL; Length: 2.9mm; Width: 1.6mm; Height - Seated (Max): 1.1mm; Terminal Pitch: 0.95mm; Temperature Grade: AUTOMOTIVE; Reach SVHC Compliant: Yes; RoHS Compliant: Yes; ComponentLink1URL: https://www.ti.com:443/lit/ds/symlink/tps54202.pdf?src-supplier=IHS+Markit; ComponentLink1Description: https://www.ti.com:443/lit/ds/symlink/tps54202.pdf?src-supplier=IHS+Markit; ComponentLink2URL: http://www.ti.com/general/docs/suppproductinfo.tsp?distId=10&gotoUrl=http%3A%2F%2Fwww.ti.com%2Flit%2Fgpn%2Ftps54202&src-supplier=Digi-Key; ComponentLink2Description: http://www.ti.com/general/docs/suppproductinfo.tsp?distId=10&gotoUrl=http%3A%2F%2Fwww.ti.com%2Flit%2Fgpn%2Ftps54202&src-supplier=Digi-Key; ComponentLink3URL: http://www.ti.com/lit/ds/symlink/tps54202.pdf?src-supplier=Digi-Key; ComponentLink3Description: http://www.ti.com/lit/ds/symlink/tps54202.pdf?src-supplier=Digi-Key; ComponentLink4URL: http://www.ti.com/general/docs/suppproductinfo.tsp?distId=10&amp;gotoUrl=http%3A%2F%2Fwww.ti.com%2Flit%2Fgpn%2Ftps54202&src-supplier=Digi-Key; ComponentLink4Description: http://www.ti.com/general/docs/suppproductinfo.tsp?distId=10&amp;gotoUrl=http%3A%2F%2Fwww.ti.com%2Flit%2Fgpn%2Ftps54202&src-supplier=Digi-Key; Supplier Part Number 1: 296-TPS54202DDCRDKR-ND
footprint SOT-23-6
pins: 1 GND (power) "Ground pin. Source terminal of low-side power NFET as well as the ground terminal for controller circuit. Connect sensitive VFB to this GND at a single point.", 2 SW (power) "Switch node connection between high-side NFET and low-side NFET.", 3 VIN (power) "Input voltage supply pin. The drain terminal of high-side power NFET", 4 FB (in) "Converter feedback input. Connect to output voltage with feedback resistor divider.", 5 EN (in) "This pin is the enable pin. Float the EN pin to enable.", 6 BOOT (power) "Supply input for the high-side NFET gate drive circuit. Connect a 0.1-μF capacitor between BOOT and SW pins."

## TPS55340RTER
designator U?, comment Boost  Package: QFN-16  Manufacturer Part Number: TPS55340RTER
Boost, 32V, 7.75A, QFN-16; Manufacturer: Texas Instruments; Package Body Material: Plastic; Throw Configuration: SWITCHING REGULATOR; Control Mode: CURRENT-MODE; Control Technique: PULSE WIDTH MODULATION; Min Input Voltage: 2.9V; Nominal Supply Voltage: 5V; Channels: 1; Frequency: 1.48MHz; Qualification Status: Not Qualified; Supplier 1: LCSC; RoHS: Yes; Category: Voltage Regulators - Switching; Stock 1: 2560; Pricing 1: 1=0.8828, 10=0.7582, 30=0.6705, 100=0.5967, 500=0.5168, 1000=0.5029 (USD); Case/Package: HVQCCN; Pins: 16; Package Shape: Square; Terminal Finish: Nickel; Min Operating Temperature: -40°C; Max Operating Temperature: 150°C; JESD-609 Code: e4; Max Supply Voltage: 32V; JESD-30 Code: S-PQCC-N16; Moisture Sensitivity Level: 2; Max Output current: 7.75A; Package Style: CHIP CARRIER, HEAT SINK/SLUG, VERY THIN PROFILEMeter; Peak Reflow Temperature (Cel): 260°C; Surface Mount: Yes; Switcher Configuration: BOOST; Terminal Form: No Lead; Terminal Position: QUAD; Length: 3mm; Width: 3mm; Height - Seated (Max): 0.8mm; Terminal Pitch: 0.5mm; Temperature Grade: AUTOMOTIVE; Reach SVHC Compliant: Yes; RoHS Compliant: Yes; ComponentLink1URL: https://www.ti.com:443/lit/ds/symlink/tps55340.pdf?src-supplier=IHS+Markit; ComponentLink1Description: https://www.ti.com:443/lit/ds/symlink/tps55340.pdf?src-supplier=IHS+Markit; ComponentLink2URL: https://datasheet.ciiva.com/41798/tps55340-41798808.pdf?src-supplier=Digikey; ComponentLink2Description: https://datasheet.ciiva.com/41798/tps55340-41798808.pdf?src-supplier=Digikey; ComponentLink3URL: https://datasheet.ciiva.com/14377/tps55340-14377094.pdf?src-supplier=Avnet; ComponentLink3Description: https://datasheet.ciiva.com/14377/tps55340-14377094.pdf?src-supplier=Avnet; Supplier Part Number 1: C169167
footprint QDF-16 (QFN, 16-Leads, Body 3.00x3.00mm, Pitch 0.50mm, Thermal Pad 1.70x1.70mm, IPC Low Density)
pins: 1 SW (power) "SW is the drain of the internal power MOSFET. Connect SW to the switched side of the boost or SEPIC inductor or the flyback transformer.", 2 VIN (power) "The input supply pin to the IC. Connect VIN to a supply voltage between 2.9 V and 32 V. It is acceptable for the voltage on the pin to be different from the boost power stage input.", 3 EN (in) "Enable pin. When the voltage of this pin falls below the enable threshold for more than 1 ms, the IC turns off.", 4 SS (in) "Soft-start programming pin. A capacitor between the SS pin and AGND pin programs soft-start timing.", 5 SYNC (in) "Switching frequency synchronization pin. An external clock signal can be used to set the switching frequency between 200 kHz and 1.0 MHz. If not used, this pin should be tied to AGND.", 6 AGND (power) "Signal ground of the IC", 7 COMP (out) "Output of the transconductance error amplifier. An external RC network connected to this pin compensates the regulator feedback loop.", 8 FB (in) "Error amplifier input and feedback pin for positive voltage regulation. Connect to the center tap of a resistor divider to program the output voltage.", 9 FREQ (in) "Switching frequency program pin. An external resistor connected between the FREQ pin and AGND sets the switching frequency.", 10 NC (power) "Reserved pin that must be connected to ground", 11 PGND (power) "Power ground of the IC. It is connected to the source of the internal power MOSFET switch.", 12 PGND (power) "Power ground of the IC. It is connected to the source of the internal power MOSFET switch.", 13 PGND (power) "Power ground of the IC. It is connected to the source of the internal power MOSFET switch.", 14 NC (power) "Reserved pin that must be connected to ground", 15 SW (power) "SW is the drain of the internal power MOSFET. Connect SW to the switched side of the boost or SEPIC inductor or the flyback transformer.", 16 SW (power) "SW is the drain of the internal power MOSFET. Connect SW to the switched side of the boost or SEPIC inductor or the flyback transformer.", PAD PowerPAD (power) "The PowerPAD should be soldered to the AGND. If possible, use thermal vias to connect to internal ground plane for improved power dissipation."

## TSC015A06026A
designator SW?
Tactile switch, SPST, 6mm tall; Mechanical Life: 100000Cycles; Illumination Type: Non-Illuminated; Switch Function: Off-Mom; Actuator Type: Standard; Operating Force: 260gf; Switch Travel: 0.25mm; Ratings: IP40; RoHS: No; Category: Tactile Switches; Mount: Surface Mount; Min Operating Temperature: -20°C; Max Operating Temperature: 70°C; Throw Configuration: SPST; Packaging: Tape and Reel; Termination: Gull Wing; ComponentLink1URL: https://www.ckswitches.com/media/2567/pts647.pdf?src-supplier=Digi-Key; ComponentLink1Description: https://www.ckswitches.com/media/2567/pts647.pdf?src-supplier=Digi-Key; Height: 6mm; Manufacturer Part Number: TSC015A06026A
footprint TSC015A06026A
pins: 1, 2, 3, 4

## TSC015A08026B
designator SW?
Tactile switch, SPST, 8mm tall; house_part_number: SW-TAC-4.5-8-260gf; Mechanical Life: 100000Cycles; Illumination Type: Non-Illuminated; Switch Function: Off-Mom; Actuator Type: Standard; Operating Force: 260gf; Switch Travel: 0.25mm; Ratings: IP40; RoHS: No; Category: Tactile Switches; Stock 1: 68566; Pricing 1: 1=0.13000, 10=0.12700, 25=0.12080, 100=0.10970, 250=0.10308, 500=0.09432, 1000=0.07897 (USD); Mount: Surface Mount; Min Operating Temperature: -20°C; Max Operating Temperature: 70°C; Throw Configuration: SPST; Packaging: Tape and Reel; Termination: Gull Wing; ComponentLink1URL: https://www.ckswitches.com/media/2567/pts647.pdf?src-supplier=Digi-Key; ComponentLink1Description: https://www.ckswitches.com/media/2567/pts647.pdf?src-supplier=Digi-Key; Height: 8mm; Manufacturer Part Number: TSC015A08026B
footprint TSC015A08026B
pins: 1, 2, 3, 4

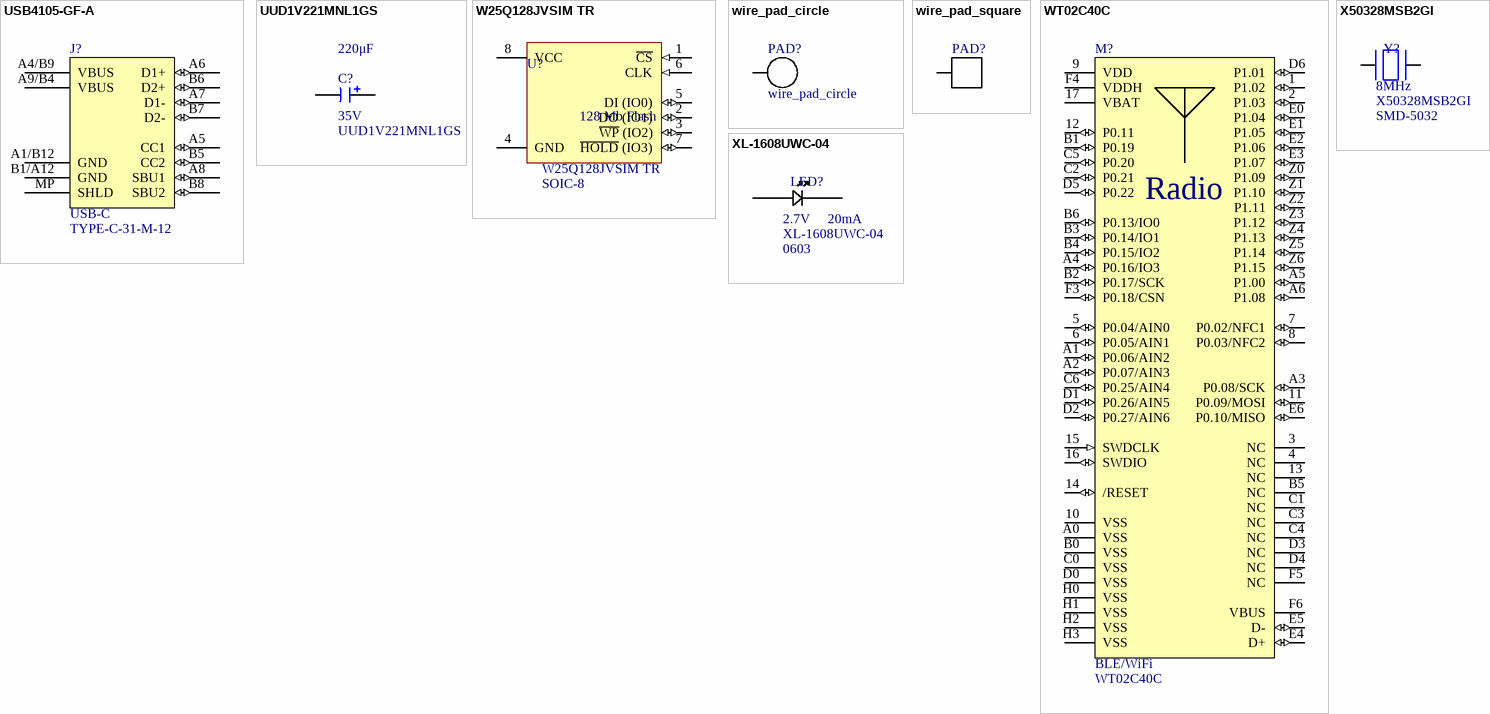
[diagram p2: symbols USB4105-GF-A to XL-1608UWC-04]

## USB4105-GF-A
designator J?, comment USB-C  Manufacturer Part Number: TYPE-C-31-M-12
USB-C 2.0 Female Connector; Manufacturer: Global Connector Technology; Alternate Manufacturer: Korean HROparts Elec; Alternate Part Number: USB4105-GF-A; Connector Type: USB; Gender: Receptacle; Mating Cycles: 10000; Shielding: Shielded; Number of Ports: 1; Supplier: Farnell; Supplier Part Number: 3588205; RoHS: No; Category: USB Connectors; Stock: 1499; Pricing: 1=1, 20=3.07, 60=3.02, 160=2.64, 400=2.63 (EUR); Mounting Technology: Surface Mount,Through Hole,Horizontal; Contact Plating: Gold; Insulation Color: Black; Min Operating Temperature: -40°C; Max Operating Temperature: 85°C; Series: USB4105; Termination: Solder; Flammability Rating: UL94 V-0; ComponentLink1URL: https://gct.co/files/drawings/usb4105.pdf?src-supplier=Digi-Key; ComponentLink1Description: https://gct.co/files/drawings/usb4105.pdf?src-supplier=Digi-Key
footprint USB_C_2.0_M12 (HRO M12/GCT 4105 USB-C 2.0 CONNECTOR)
pins: A1/B12 GND (power) "Ground", A4/B9 VBUS (power) "Bus Power", A5 CC1 (io) "Configuration channel", A6 D1+ (io) "USB 2.0 differential pair, position 1, positive", A7 D1- (io) "USB 2.0 differential pair, position 1, negative", A8 SBU1 (io) "Sideband use", A9/B4 VBUS (power) "Bus Power", B1/A12 GND (power) "Ground", B5 CC2 (io) "Configuration channel", B6 D2+ (io) "USB 2.0 differential pair, position 2, positive", B7 D2- (io) "USB 2.0 differential pair, position 2, negative", B8 SBU2 (io) "Sideband use", MP SHLD

## UUD1V221MNL1GS
designator C?  Manufacturer Part Number: UUD1V221MNL1GS  Rated DC Voltage (URdc): 35V  Capacitance: 220μF  (hidden comment: *)
220 μF, 35 V, 8mm Electrolytic capacitor; Manufacturer: Nichicon; Dielectric Material: Aluminium; Polarity: Polarized; Leakage Current: 77uA; Tolerance  (fill in as +-): 20%; Ripple Current: 225mA; Tan Delta: 0.14; Supplier 1: LCSC; RoHS: Yes; Category: Aluminum Electrolytic Capacitors; Stock 1: 28395; Pricing 1: 5=0.2357, 50=0.1846, 150=0.1627, 500=0.1284, 2500=0.1162, 5000=0.1089 (USD); Mounting Technology: Surface Mount; Pins: 2; Terminal Finish: Tin; Package Shape: Cylindrical; Case/Package: 3333; Min Operating Temperature: -55°C; Max Operating Temperature: 105°C; JESD-609 Code: e6; Capacitor Type: Aluminium; Package Style: SMTMeter; Packaging: Tape and Reel; Tolerance (fill in as +-): 20%; Termination: Flat; Length: 8.9mm; Width: 8.3mm; Height: 10mm; Reach SVHC Compliant: No; RoHS Compliant: Yes; ComponentLink1URL: https://datasheet.ciiva.com:443/pdfs/VipMasterIC/IC/NICH/NICH-S-A0009240538/NICH-S-A0009240538-1.pdf?src-supplier=IHS+Markit; ComponentLink1Description: https://datasheet.ciiva.com:443/pdfs/VipMasterIC/IC/NICH/NICH-S-A0009240538/NICH-S-A0009240538-1.pdf?src-supplier=IHS+Markit; ComponentLink2URL: https://datasheet.ciiva.com/11778/0900766b80fa39e7-11778272.pdf?src-supplier=Rs; ComponentLink2Description: https://datasheet.ciiva.com/11778/0900766b80fa39e7-11778272.pdf?src-supplier=Rs; ComponentLink3URL: https://datasheet.ciiva.com/97/e-ud-97948.pdf?src-supplier=Digikey; ComponentLink3Description: https://datasheet.ciiva.com/97/e-ud-97948.pdf?src-supplier=Digikey; ComponentLink4URL: https://datasheet.ciiva.com/97/e-ud-97949.pdf?src-supplier=Digikey; ComponentLink4Description: https://datasheet.ciiva.com/97/e-ud-97949.pdf?src-supplier=Digikey; ComponentLink5URL: https://datasheet.ciiva.com/97/e-ud-97950.pdf?src-supplier=Digikey; ComponentLink5Description: https://datasheet.ciiva.com/97/e-ud-97950.pdf?src-supplier=Digikey; ComponentLink6URL: https://datasheet.ciiva.com/15199/getdatasheetpartid-317116-15199222.pdf?src-supplier=Verical; ComponentLink6Description: https://datasheet.ciiva.com/15199/getdatasheetpartid-317116-15199222.pdf?src-supplier=Verical; Supplier Part Number 1: C251000
footprint UUD1V221MNL1GS (Aluminum Electrolytic Capacitor, Body 8.30x8.30x10.80mm, IPC Medium Density)
pins: 1, 2

## W25Q128JVSIM TR
designator U?, comment 128 Mb Flash  Manufacturer Part Number: W25Q128JVSIM TR  Case/Package: SOIC-8
128Mb SPI flash memory; Manufacturer: Winbond; house_part_number: W25Q128JVSIM; Memory Type: Non-Volatile,FLASH; Frequency: 133MHz; Supplier 1: Digi-Key; Stock 1: 0; Pricing 1: 1=1.69, 10=1.545, 25=1.5028, 50=1.495, 100=1.3364, 250=1.3325, 500=1.3124, 1000=1.2567 (USD); Mount: Surface Mount; Number of Pins: 8; Min Operating Temperature: -40°C; Max Operating Temperature: 85°C; Packaging: Cut Tape; Memory Size: 128Mb; ComponentLink1URL: http://www.winbond.com/resource-files/w25q128jv_dtr%20revc%2003272018%20plus.pdf?src-supplier=Digi-Key; ComponentLink1Description: http://www.winbond.com/resource-files/w25q128jv_dtr%20revc%2003272018%20plus.pdf?src-supplier=Digi-Key; Supplier Part Number 1: W25Q128JVSIMCT-ND
footprint SOIC-8_wide
pins: 1 ~{CS} (in), 2 DO (IO1) (io), 3 ~{WP} (IO2) (io), 4 GND (power), 5 DI (IO0) (io), 6 CLK (in), 7 ~{HOLD} (IO3) (io), 8 VCC (power)

## wire_pad_circle
designator PAD?  (no BOM)
1.5mm circular wire pad; pickable: no
footprint WIRE_PAD_CIRCLE
pins: 1

## wire_pad_square
designator PAD?  (value not drawn)  (no BOM)
1.5mm square wire pad; pickable: no
footprint WIRE_PAD_SQUARE
pins: 1

## WT02C40C
designator M?, comment BLE/WiFi  Manufacturer Part Number: WT02C40C
nRF5340 BLE/WIFI module
footprint WT02C40C (nRF5340+nRF7002 BLE+WiFI moduke)
pins: 1 P1.02 (io) "GPIO, configured as I2C SDA on EV board", 2 P1.03 (io) "GPIO, configured as I2C SCL on EV board", 3 NC "Not connected", 4 NC "Not connected", 5 P0.04/AIN0 (io) "GPIO, Analog input", 6 P0.05/AIN1 (io) "GPIO, Analog input", 7 P0.02/NFC1 (io) "GPIO, NFC antenna connection", 8 P0.03/NFC2 (io) "GPIO, NFC antenna connection", 9 VDD (power) "DC supply 1.7V to 3.6V", 10 VSS (power) "Ground", 11 P0.09/MOSI (io) "GPIO; BT40F high speed SPI_MOSI.", 12 P0.11 (io) "GPIO", 13 NC "Not connected", 14 /RESET (io) "GPIO, reset with internal pull up, active low.", 15 SWDCLK (in) "Serial Wire Debug clock input", 16 SWDIO (io) "Serial Wire Debug I/O", 17 VBAT (power) "nRF7002 Power Supply", A0 VSS (power) "Ground", A1 P0.06/AIN2 (io) "GPIO, Analog input", A2 P0.07/AIN3 (io) "GPIO, Analog input", A3 P0.08/SCK (io) "GPIO; BT40F, high speed SPI clock", A4 P0.16/IO3 (io) "GPIO; BT40F, high speed SPI IO3", A5 P1.00 (io) "GPIO", A6 P1.08 (io) "GPIO, Connected to nRF21540 MOSI pin internally for BT40N.", B0 VSS (power) "Ground", B1 P0.19 (io) "GPIO", B2 P0.17/SCK (io) "GPIO, BT40F QSPI clock.", B3 P0.14/IO1 (io) "GPIO, BT40F QSPI IO1", B4 P0.15/IO2 (io) "GPIO, BT40F QSPI IO2", B5 NC "Not connected", B6 P0.13/IO0 (io) "GPIO, BT40F QSPI IO0", C0 VSS (power) "Ground", C1 NC "Not connected", C2 P0.21 (io) "GPIO; Connected to nRF21540 TX_EN pin internally for BT40N.", C3 NC "Not connected", C4 NC "Not connected", C5 P0.20 (io) "GPIO", C6 P0.25/AIN4 (io) "GPIO, BT40F, analog input; Connected to nRF21540 MISO pin internally for BT40N.", D0 VSS (power) "Ground", D1 P0.26/AIN5 (io) "GPIO, BT40F, analog input; Connected to nRF21540 PDN pin internally for BT40N.", D2 P0.27/AIN6 (io) "GPIO, BT40F analog input; Connected to nRF21540 RX_EN pin internally for BT40N.", D3 NC "Not connected", D4 NC "Not connected", D5 P0.22 (io) "GPIO", D6 P1.01 (io) "GPIO", E0 P1.04 (io) "GPIO; Connected to nRF21540 MODE internally for BT40N.", E1 P1.05 (io) "GPIO; Connected to nRF21540 ANT-SEL internally for BT40N.", E2 P1.06 (io) "GPIO; Connected to nRF21540 CSN pin internally for BT40N.", E3 P1.07 (io) "GPIO", E4 D+ (io) "USB D+", E5 D- (io) "USB D-", E6 P0.10/MISO (io) "GPIO, BT40F high speed SPI MISO", F3 P0.18/CSN (io) "GPIO, BT40F QSPI chip select", F4 VDDH (power) "High Voltage Power Supply, 2.5V to 5.5V", F5 NC "Not connected", F6 VBUS (power) "5V DC power for USB 3.3V regulator", H0 VSS (power) "Ground pad", H1 VSS (power) "Ground pad", H2 VSS (power) "Ground pad", H3 VSS (power) "Ground pad", Z0 P1.09 (io) "GPIO", Z1 P1.10 (io) "GPIO", Z2 P1.11 (io) "GPIO;", Z3 P1.12 (io) "GPIO;", Z4 P1.13 (io) "GPIO;", Z5 P1.14 (io) "GPIO", Z6 P1.15 (io) "GPIO, Connected to nRF21540 SCK pin internally for BT40N."
text: Radio

## X50328MSB2GI
designator Y?  Frequency: 8MHz  Package: SMD-5032  Manufacturer Part Number: X50328MSB2GI  (hidden comment: *)
8 MHz crystal, 20 pF, ±50ppm, SMD-5032; Manufacturer: YXC; Supplier 1: LCSC; RoHS: No; Stock 1: 138605; Pricing 1: 5=0.1818, 50=0.1439, 150=0.1254, 1000=0.1089, 2000=0.1043, 5000=0.1016 (USD); Supplier Part Number 1: C115962
footprint SMD-5032
pins: 1, 2

## XL-1608UWC-04
designator LED?  Current: 20mA  Forward Voltage: 2.7V  Package: 0603  Manufacturer Part Number: XL-1608UWC-04  (hidden comment: *)
White LED, 0603; Manufacturer: XINGLIGHT; Supplier 1: LCSC; RoHS: No; Stock 1: 792847; Pricing 1: 100=0.0038, 1000=0.0031, 4000=0.0024, 8000=0.0022, 48000=0.002 (USD); Supplier Part Number 1: C965808
footprint 0603_LED (SODFL, 2-Leads, Body 0.80x1.60mm, IPC Medium Density)
pins: 1 A, 2 K